# EAGLE library part TS3L501E (library TS3L501E)
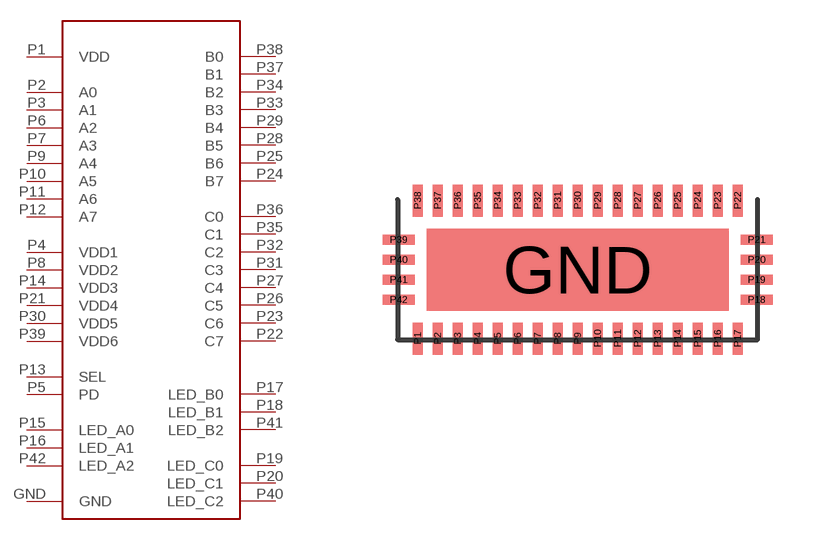
[diagram p0: symbol with the pads of TS3L501E; footprint TS3L501E]

Designator prefix -

## TS3L501E  [TS3L501E]
GND  GND  pwr
P1  VDD
P2  A0
P3  A1
P4  VDD1
P5  PD
P6  A2
P7  A3
P8  VDD2
P9  A4
P10  A5
P11  A6
P12  A7
P13  SEL
P14  VDD3
P15  LED_A0
P16  LED_A1
P17  LED_B0
P18  LED_B1
P19  LED_C0
P20  LED_C1
P21  VDD4
P22  C7
P23  C6
P24  B7
P25  B6
P26  C5
P27  C4
P28  B5
P29  B4
P30  VDD5
P31  C3
P32  C2
P33  B3
P34  B2
P35  C1
P36  C0
P37  B1
P38  B0
P39  VDD6
P40  LED_C2
P41  LED_B2
P42  LED_A2

## Footprint TS3L501E (pad centres in mm)
smd 7.55 x 2.05: GND 0,0
smd 0.25 x 0.8: P1 -4,-1.725; P2 -3.5,-1.725; P3 -3,-1.725; P4 -2.5,-1.725; P5 -2,-1.725; P6 -1.5,-1.725; P7 -1,-1.725; P8 -0.5,-1.725; P9 0,-1.725; P10 0.5,-1.725; P11 1,-1.725; P12 1.5,-1.725; P13 2,-1.725; P14 2.5,-1.725; P15 3,-1.725; P16 3.5,-1.725; P17 4,-1.725; P22 4,1.725; P23 3.5,1.725; P24 3,1.725; P25 2.5,1.725; P26 2,1.725; P27 1.5,1.725; P28 1,1.725; P29 0.5,1.725; P30 0,1.725; P31 -0.5,1.725; P32 -1,1.725; P33 -1.5,1.725; P34 -2,1.725; P35 -2.5,1.725; P36 -3,1.725; P37 -3.5,1.725; P38 -4,1.725
smd 0.8 x 0.25: P18 4.475,-0.75; P19 4.475,-0.25; P20 4.475,0.25; P21 4.475,0.75; P39 -4.475,0.75; P40 -4.475,0.25; P41 -4.475,-0.25; P42 -4.475,-0.75